# Altium footprint library SCHA5B0200.PcbLib: 1 footprints
Each footprint in its own frame and in the unit in brackets; x right, y up, seen from the top. Pads: shape width x height; smd on the part's side, far side on the other; paste and mask are expansions set on the pad; w line width, h text height; cw(c..) or ccw(c..) is an arc to the next point about the centre after c.
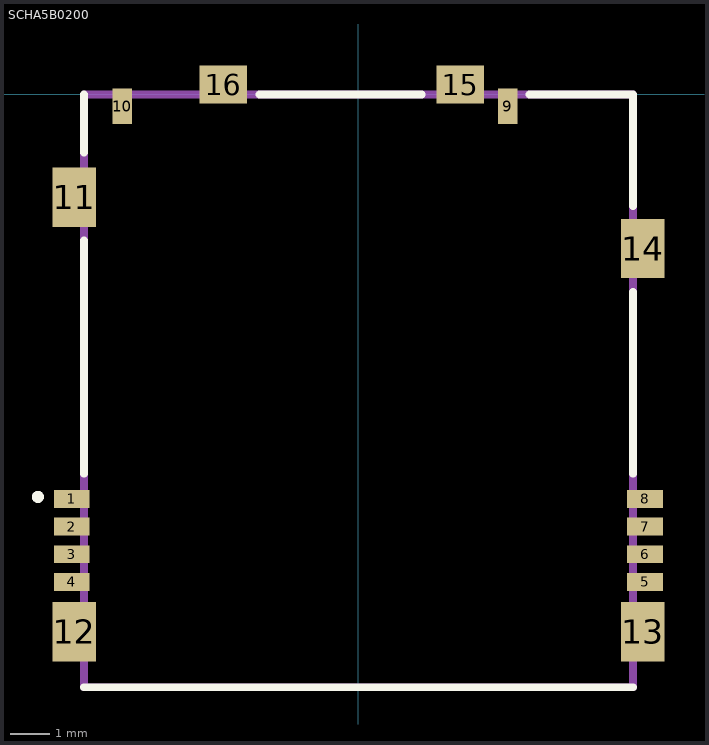
[diagram p0: the footprint, top view; thin cyan lines are the x and y axes]

## SCHA5B0200 [mm]
pads (16):
  rect 0.9x0.45 smd: 1(-7.25,-10.235) 2(-7.25,-10.935) 3(-7.25,-11.635) 4(-7.25,-12.335) 5(7.25,-12.335) 6(7.25,-11.635) 7(7.25,-10.935) 8(7.25,-10.235)
  rect 0.5x0.9 smd: 9(3.775,-0.3) 10(-5.975,-0.3)
  rect 1.1x1.5 smd: 11(-7.187,-2.6) 12(-7.187,-13.6) 13(7.187,-13.6) 14(7.187,-3.9)
  rect 1.2x0.95 smd: 15(2.575,0.25) 16(-3.425,0.25)
L26-Silk Screen Top (Multiple PADS layers...):
  circle w0.2: c-8.111,-10.185 r0.053
  lines w0.2: -6.95,-15 6.95,-15 ; -6.95,-9.6 -6.95,-3.7 ; -6.95,-1.468 -6.95,0 ; -2.5,0 1.6,0 ; 4.331,0 6.95,0 6.95,-2.821 ; 6.95,-9.6 6.95,-5
L15 (Multiple PADS layers...):
  lines w0.2: -6.95,-15 6.95,-15 6.95,0 -6.95,0 -6.95,-15